# EAGLE library part JP6E (library 1A-meinLib)
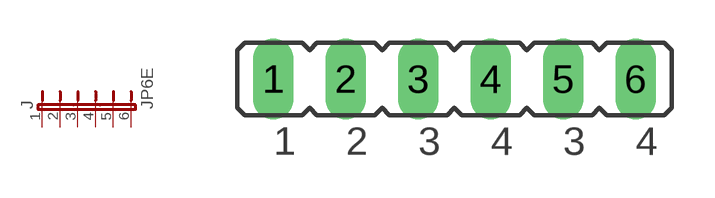
[diagram p379: symbol with the pads of JP6; footprint JP6]

Designator prefix J

## JP6E  [JP6]
1  1  pas
2  2  pas
3  3  pas
4  4  pas
5  5  pas
6  6  pas

## Footprint JP6 (pad centres in mm)
drill 0.914 long: 1 -5.08,0; 2 -2.54,0; 3 0,0; 4 2.54,0; 5 5.08,0; 6 7.62,0